# Altium footprint library ArduinoMega2560.PcbLib: 1 footprints
Each footprint in its own frame and in the unit in brackets; x right, y up, seen from the top. Pads: shape width x height; smd on the part's side, far side on the other; paste and mask are expansions set on the pad; w line width, h text height; cw(c..) or ccw(c..) is an arc to the next point about the centre after c.
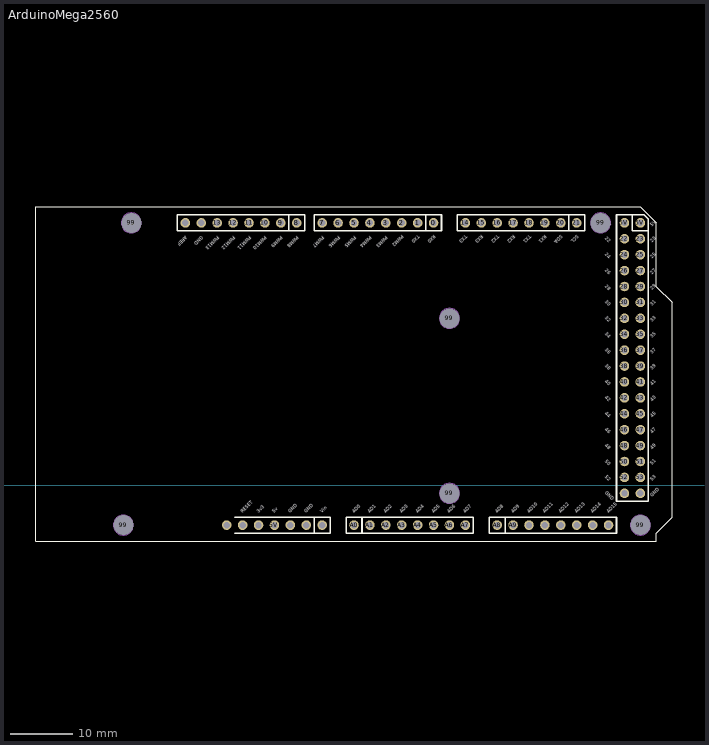
[diagram p0: the footprint, top view; thin cyan lines are the x and y axes]

## ArduinoMega2560 [mil]
pads (89):
  round 60 hole 40: 0(4825,1650) 1(4725,1650) 2(4625,1650) 3(4525,1650) 3.3V(3725,-250) 4(4425,1650) 5(4325,1650) 5V(3825,-250) 5V(6025,1650) 5V(6125,1650) 6(4225,1650) 7(4125,1650) 8(3965,1650) 9(3865,1650) 10(3765,1650) 11(3665,1650) 12(3565,1650) 13(3465,1650) 14(5025,1650) 15(5125,1650) 16(5225,1650) 17(5325,1650) 18(5425,1650) 19(5525,1650) 20(5625,1650) 21(5725,1650) 22(6025,1550) 23(6125,1550) 24(6025,1450) 25(6125,1450) 26(6025,1350) 27(6125,1350) 28(6025,1250) 29(6125,1250) 30(6025,1150) 31(6125,1150) 32(6025,1050) 33(6125,1050) 34(6025,950) 35(6125,950) 36(6025,850) 37(6125,850) 38(6025,750) 39(6125,750) 40(6025,650) 41(6125,650) 42(6025,550) 43(6125,550) 44(6025,450) 45(6125,450) 46(6025,350) 47(6125,350) 48(6025,250) 49(6125,250) 50(6025,150) 51(6125,150) 52(6025,50) 53(6125,50) A0(4325,-250) A1(4425,-250) A2(4525,-250) A3(4625,-250) A4(4725,-250) A5(4825,-250) A6(4925,-250) A7(5025,-250) A8(5225,-250) A9(5325,-250) A10(5425,-250) A11(5525,-250) A12(5625,-250) A13(5725,-250) A14(5825,-250) A15(5925,-250) AREF(3265,1650) GND(3365,1650) GND(3925,-250) GND(4025,-250) GND(6025,-50) GND(6125,-50) IOREF(3525,-250) RST(3625,-250) VIN(4125,-250)
  round 62.99 hole 125.98: 99(2875,-250) 99(2925,1650) 99(4925,-50) 99(4925,1050) 99(5875,1650) 99(6125,-250)
Top Overlay:
  lines w5: 2325,-350 6225,-350 6225,-300 6325,-200 6325,1150 6225,1250 6225,1650 6125,1750 2325,1750 2325,-350
  lines w10: 3575,-300 4075,-300 ; 3575,-200 4075,-200 ; 3915,1600 3915,1700 ; 4375,-300 4375,-200 ; 4775,1600 4775,1700 ; 5275,-300 5275,-200 ; 5675,1600 5675,1700 ; 6075,1700 6075,1600 6175,1600 ; 4075,-300 4175,-300 4175,-250 4175,-200 4075,-200 ; 4075,-300 4075,-200 ; 3215,1600 3215,1700 4015,1700 4015,1600 3215,1600 ; 4075,1600 4075,1700 4875,1700 4875,1600 4075,1600 ; 4275,-300 5075,-300 5075,-200 4275,-200 4275,-300 ; 4975,1600 4975,1700 5775,1700 5775,1600 4975,1600 ; 5175,-300 5975,-300 5975,-200 5175,-200 5175,-300 ; 5975,-100 6175,-100 6175,1675 6150,1700 5975,1700 5975,-100
  text "AREF" at 3265,1570 h20
  text "GND" at 3365,1570 h20
  text "PWM13" at 3465,1570 h20
  text "PWM12" at 3565,1570 h20
  text "PWM11" at 3665,1570 h20
  text "PWM10" at 3765,1570 h20
  text "PWM9" at 3865,1570 h20
  text "PWM8" at 3965,1570 h20
  text "PWM7" at 4125,1567.93 h20
  text "PWM6" at 4225,1567.93 h20
  text "PWM5" at 4325,1567.93 h20
  text "PWM4" at 4425,1567.93 h20
  text "PWM3" at 4525,1567.93 h20
  text "PWM2" at 4625,1575 h20
  text "TX0" at 4725,1575 h20
  text "TX3" at 5025,1575 h20
  text "RX3" at 5125,1575 h20
  text "TX2" at 5225,1575 h20
  text "RX2" at 5325,1575 h20
  text "TX1" at 5425,1575 h20
  text "RX1" at 5525,1575 h20
  text "SDA" at 5625,1575 h20
  text "GND" at 6200,-75 h20
  text "53" at 6200,25 h20
  text "51" at 6200,125 h20
  text "49" at 6200,225 h20
  text "47" at 6200,325 h20
  text "45" at 6200,425 h20
  text "43" at 6200,525 h20
  text "41" at 6200,625 h20
  text "39" at 6200,725 h20
  text "37" at 6200,825 h20
  text "35" at 6200,925 h20
  text "33" at 6200,1025 h20
  text "31" at 6200,1125 h20
  text "29" at 6200,1225 h20
  text "27" at 6200,1325 h20
  text "25" at 6200,1425 h20
  text "23" at 6200,1525 h20
  text "5V" at 6200,1625 h20
  text "50" at 5900,150 h20
  text "GND" at 5900,-50 h20
  text "52" at 5900,50 h20
  text "48" at 5900,250 h20
  text "46" at 5900,350 h20
  text "44" at 5900,450 h20
  text "42" at 5900,550 h20
  text "40" at 5900,650 h20
  text "38" at 5900,750 h20
  text "36" at 5900,850 h20
  text "34" at 5900,950 h20
  text "32" at 5900,1050 h20
  text "30" at 5900,1150 h20
  text "28" at 5900,1250 h20
  text "26" at 5900,1350 h20
  text "24" at 5900,1450 h20
  text "22" at 5900,1550 h20
  text "5V" at 5900,1650 h20
  text "SCL" at 5725,1575 h20
  text "RX0" at 4825,1575 h20
  text "AD15" at 5925,-175 h20
  text "AD14" at 5825,-175 h20
  text "AD13" at 5725,-175 h20
  text "AD12" at 5625,-175 h20
  text "AD11" at 5525,-175 h20
  text "AD10" at 5425,-175 h20
  text "AD9" at 5325,-175 h20
  text "AD8" at 5225,-175 h20
  text "AD7" at 5025,-175 h20
  text "AD6" at 4925,-175 h20
  text "AD5" at 4825,-175 h20
  text "AD4" at 4725,-175 h20
  text "AD3" at 4625,-175 h20
  text "AD2" at 4525,-175 h20
  text "AD1" at 4425,-175 h20
  text "AD0" at 4325,-175 h20
  text "Vin" at 4125,-175 h20
  text "GND" at 4025,-175 h20
  text "GND" at 3925,-175 h20
  text "5v" at 3825,-175 h20
  text "3v3" at 3725,-175 h20
  text "RESET" at 3625,-175 h20
Mechanical 1:
  circle w5: c2925,1650 r62.99
  circle w5: c4925,-50 r62.99
  circle w5: c2875,-250 r62.99
  circle w5: c4925,1050 r62.99
  circle w5: c5875,1650 r62.99
  circle w5: c6125,-250 r62.99